# Altium footprint library Surface Mount.PcbLib: 37 footprints (part 3 of 3)
Each footprint in its own frame and in the unit in brackets; x right, y up, seen from the top. Pads: shape width x height; smd on the part's side, far side on the other; paste and mask are expansions set on the pad; w line width, h text height; cw(c..) or ccw(c..) is an arc to the next point about the centre after c.
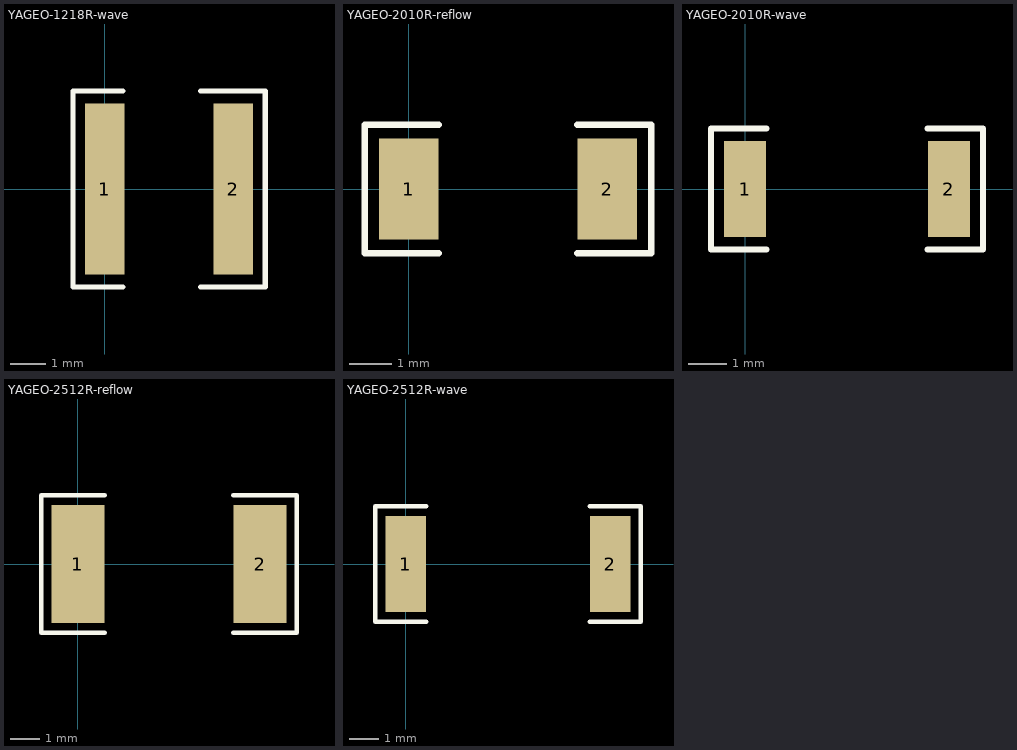
[diagram p2: the footprints below, top view; thin cyan lines are the x and y axes]

## YAGEO-1218R-wave [mm] "YAGEO(国巨)数据手册中推荐的1218贴片电阻的波峰焊封装"
pads (2):
  rect 1.1x4.8 smd: 1(0,0) 2(3.6,0)
Top Overlay:
  lines w0.15: 0.508,-2.743 -0.889,-2.743 -0.889,2.743 0.508,2.743 ; 2.692,-2.743 4.496,-2.743 4.496,2.743 2.692,2.743
3D body "SMD RESISTOR 1218.STEP": height 0.7, standoff 0.1, extent 0.2,-2.3 3.4,2.3

## YAGEO-2010R-reflow [mm] "YAGEO(国巨)数据手册中推荐的2010贴片电阻的回流焊封装"
pads (2):
  rect 1.4x2.4 smd: 1(0,0) 2(4.7,0)
Top Overlay:
  lines w0.15: 0.711,-1.524 -1.041,-1.524 -1.041,1.524 0.711,1.524 ; 3.989,-1.524 5.741,-1.524 5.741,1.524 3.989,1.524
3D body "SMD RESISTOR 2010.step": height 0.73, standoff 0.13, extent -0.15,-1.25 4.85,1.25

## YAGEO-2010R-wave [mm] "YAGEO(国巨)数据手册中推荐的2010贴片电阻的波峰焊封装"
pads (2):
  rect 1.1x2.5 smd: 1(0,0) 2(5.3,0)
Top Overlay:
  lines w0.15: 0.559,-1.575 -0.889,-1.575 -0.889,1.575 0.559,1.575 ; 4.741,-1.575 6.189,-1.575 6.189,1.575 4.741,1.575
3D body "SMD RESISTOR 2010.step": height 0.73, standoff 0.13, extent 0.15,-1.25 5.15,1.25

## YAGEO-2512R-reflow [mm] "YAGEO(国巨))数据手册中推荐的2512贴片电阻的回流焊封装"
pads (2):
  rect 1.8x4 smd: 1(0,0) 2(6.2,0)
Top Overlay:
  lines w0.15: 0.914,-2.337 -1.245,-2.337 -1.245,2.337 0.914,2.337 ; 5.286,-2.337 7.445,-2.337 7.445,2.337 5.286,2.337
3D body "SMD RESISTOR 2512.step": height 0.73, standoff 0.13, extent -0.1,-1.6 6.3,1.6

## YAGEO-2512R-wave [mm] "YAGEO(国巨))数据手册中推荐的2512贴片电阻的波峰焊封装"
pads (2):
  rect 1.35x3.2 smd: 1(0,0) 2(6.85,0)
Top Overlay:
  lines w0.15: 0.686,-1.93 -1.016,-1.93 -1.016,1.93 0.686,1.93 ; 6.164,-1.93 7.866,-1.93 7.866,1.93 6.164,1.93
3D body "SMD RESISTOR 2512.step": height 0.73, standoff 0.13, extent 0.225,-1.6 6.625,1.6